# Altium footprint library WL-S7DS.PcbLib: 4 footprints
Each footprint in its own frame and in the unit in brackets; x right, y up, seen from the top. Pads: shape width x height; smd on the part's side, far side on the other; paste and mask are expansions set on the pad; w line width, h text height; cw(c..) or ccw(c..) is an arc to the next point about the centre after c.
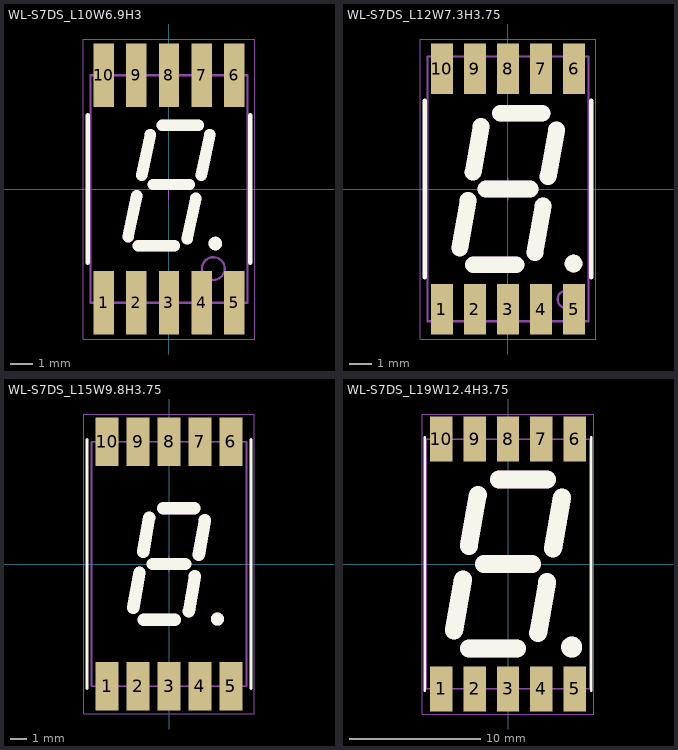
[diagram p0: the footprints below, top view; thin cyan lines are the x and y axes]

## WL-S7DS_L10W6.9H3 [mm] "7 segments display, body 6.9x10mm"
height 3.25
pads (10):
  rect 0.9x2.8 smd: 1(-2.88,-5) 2(-1.44,-5) 3(0,-5) 4(1.44,-5) 5(2.88,-5) 6(2.88,5) 7(1.44,5) 8(0,5) 9(-1.44,5) 10(-2.88,5)
Top Overlay:
  circle w0.3: c2.04,-2.4 r0.15
  lines w0.2: -3.575,-3.25 -3.575,3.25 ; 3.575,-3.25 3.575,3.25
  lines w0.5: -1.8,-2.1 -1.42,-0.3 ; -1.36,-2.5 0.24,-2.5 ; -1.2,0.6 -0.82,2.4 ; -0.7,0.2 0.9,0.2 ; -0.3,2.8 1.3,2.8 ; 0.8,-2.2 1.18,-0.4 ; 1.42,0.6 1.8,2.4
Top Designator:
  text ".Designator" at -7.498,-0.5 h1.5
Top Component Outline:
  circle w0.1: c1.95,-3.5 r0.5
  lines w0.1: -3.45,-5 3.45,-5 3.45,5 -3.45,5 -3.45,-5
Top 3D Body:
  circle w0.3: c2.04,-2.4 r0.15
  lines w0.1: -3.45,-5 3.45,-5 3.45,5 -3.45,5 -3.45,-5
  lines w0.5: -1.8,-2.1 -1.42,-0.3 ; -1.36,-2.5 0.24,-2.5 ; -1.2,0.6 -0.82,2.4 ; -0.7,0.2 0.9,0.2 ; -0.3,2.8 1.3,2.8 ; 0.8,-2.2 1.18,-0.4 ; 1.42,0.6 1.8,2.4
Top Courtyard:
  lines w0.05: -0.5,0 0.5,0 ; 0,-0.5 0,0.5 ; -3.775,-6.6 3.775,-6.6 3.775,6.6 -3.775,6.6 -3.775,-6.6
3D body "157102x12x00.stp": height 3.1, standoff 0, extent -3.45,-5 3.45,5

## WL-S7DS_L12W7.3H3.75 [mm] "7 Segments Display SMT Single Digit, body 12x7.3mm"
height 3.75
pads (10):
  rect 1x2.3 smd: 1(-3,-5.45) 2(-1.5,-5.45) 3(0,-5.45) 4(1.5,-5.45) 5(3,-5.45) 6(3,5.45) 7(1.5,5.45) 8(0,5.45) 9(-1.5,5.45) 10(-3,5.45)
Top Overlay:
  circle w0.5: c2.97,-3.38 r0.15
  lines w0.2: -3.775,-4 -3.775,4 ; 3.775,-4 3.775,4
  lines w0.762: -2.19,-2.69 -1.81,-0.52 ; -1.58,0.76 -1.22,2.84 ; -1.56,-3.43 0.36,-3.43 ; -1.004,0 1.004,0 ; -0.34,3.43 1.55,3.43 ; 1.22,-2.89 1.59,-0.76 ; 1.82,0.56 2.2,2.69
Top Designator:
  text ".Designator" at -7.498,-0.5 h1.5
Top Component Outline:
  circle w0.1: c2.65,-5 r0.4
  lines w0.1: -3.65,-6 -3.65,6 3.65,6 3.65,-6 -3.65,-6
Top 3D Body:
  circle w0.5: c2.97,-3.38 r0.15
  lines w0.1: -3.65,-6 3.65,-6 3.65,6 -3.65,6 -3.65,-6
  lines w0.762: -2.19,-2.69 -1.81,-0.52 ; -1.58,0.76 -1.22,2.84 ; -1.56,-3.43 0.36,-3.43 ; -1.004,0 1.004,0 ; -0.34,3.43 1.55,3.43 ; 1.22,-2.89 1.59,-0.76 ; 1.82,0.56 2.2,2.69
Top Courtyard:
  lines w0.05: -0.5,0 0.5,0 ; 0,-0.5 0,0.5 ; -3.975,-6.8 3.975,-6.8 3.975,6.8 -3.975,6.8 -3.975,-6.8
3D body "STP_157112x12x00 (rev1).stp": height 3.85, standoff 0, extent -3.65,-6 3.65,6

## WL-S7DS_L15W9.8H3.75 [mm] "7 Segments Display SMT Single Digit, body 15x9.8mm"
height 3.75
pads (10):
  rect 1.4x3 smd: 1(-3.8,-7.5) 2(-1.9,-7.5) 3(0,-7.5) 4(1.9,-7.5) 5(3.8,-7.5) 6(3.8,7.5) 7(1.9,7.5) 8(0,7.5) 9(-1.9,7.5) 10(-3.8,7.5)
Top Overlay:
  circle w0.5: c2.97,-3.38 r0.15
  lines w0.2: -5.025,-7.625 -5.025,7.625 ; 5.025,-7.625 5.025,7.625
  lines w0.762: -2.19,-2.69 -1.81,-0.52 ; -1.58,0.76 -1.22,2.84 ; -1.56,-3.43 0.36,-3.43 ; -1.004,0 1.004,0 ; -0.34,3.43 1.55,3.43 ; 1.22,-2.89 1.59,-0.76 ; 1.82,0.56 2.2,2.69
Top Designator:
  text ".Designator" at -7.498,-0.5 h1.5
Top Component Outline:
  circle w0.1: c3.75,-6.5 r0.4
  lines w0.1: -4.75,-7.5 -4.75,7.5 4.75,7.5 4.75,-7.5 -4.75,-7.5
Top 3D Body:
  circle w0.5: c2.97,-3.38 r0.15
  lines w0.1: -4.75,-7.5 -4.75,7.5 4.75,7.5 4.75,-7.5 -4.75,-7.5
  lines w0.762: -2.19,-2.69 -1.81,-0.52 ; -1.58,0.76 -1.22,2.84 ; -1.56,-3.43 0.36,-3.43 ; -1.004,0 1.004,0 ; -0.34,3.43 1.55,3.43 ; 1.22,-2.89 1.59,-0.76 ; 1.82,0.56 2.2,2.69
Top Courtyard:
  lines w0.05: -0.5,0 0.5,0 ; 0,-0.5 0,0.5 ; -5.225,-9.2 5.225,-9.2 5.225,9.2 -5.225,9.2 -5.225,-9.2
3D body "STP_157121x12x00 (rev1).stp": height 3.85, standoff 0, extent -4.9,-7.5 4.9,7.5

## WL-S7DS_L19W12.4H3.75 [mm] "7 Segments Display SMT Single Digit, body 12.4x19mm"
height 3.75
pads (10):
  rect 1.7x3.4 smd: 1(-5.08,-9.5) 2(-2.54,-9.5) 3(0,-9.5) 4(2.54,-9.5) 5(5.08,-9.5) 6(5.08,9.5) 7(2.54,9.5) 8(0,9.5) 9(-2.54,9.5) 10(-5.08,9.5)
Top Overlay:
  circle w1: c4.839,-6.316 r0.296
  lines w0.2: -6.325,-9.625 -6.325,9.625 ; 6.325,-9.625 6.325,9.625
  lines w1.37: -4.111,-5.054 -3.429,-1.17 ; -2.978,1.368 -2.297,5.255 ; -2.962,-6.429 0.689,-6.426 ; -1.824,0 1.824,0 ; -0.692,6.425 2.957,6.425 ; 2.292,-5.256 2.977,-1.371 ; 3.424,1.169 4.107,5.058
Top Designator:
  text ".Designator" at -7.498,-0.5 h1.5
Top Component Outline:
  circle w0.1: c5.2,-8.5 r0.4
  lines w0.1: -6.2,-9.5 -6.2,9.5 6.2,9.5 6.2,-9.5 -6.2,-9.5
Top 3D Body:
  circle w1: c4.839,-6.316 r0.296
  lines w0.1: -6.2,-9.5 -6.2,9.5 6.2,9.5 6.2,-9.5 -6.2,-9.5
  lines w1.37: -4.111,-5.054 -3.429,-1.17 ; -2.978,1.368 -2.297,5.255 ; -2.962,-6.429 0.689,-6.426 ; -1.824,0 1.824,0 ; -0.692,6.425 2.957,6.425 ; 2.292,-5.256 2.977,-1.371 ; 3.424,1.169 4.107,5.058
Top Courtyard:
  lines w0.05: -0.5,0 0.5,0 ; 0,-0.5 0,0.5 ; -6.525,-11.4 6.525,-11.4 6.525,11.4 -6.525,11.4 -6.525,-11.4
3D body "STP_157143x12x00 (rev1).stp": height 3.85, standoff 0, extent -6.2,-9.5 6.2,9.5